# EAGLE library part ATMEGA328P-AU (library ATMEGA)
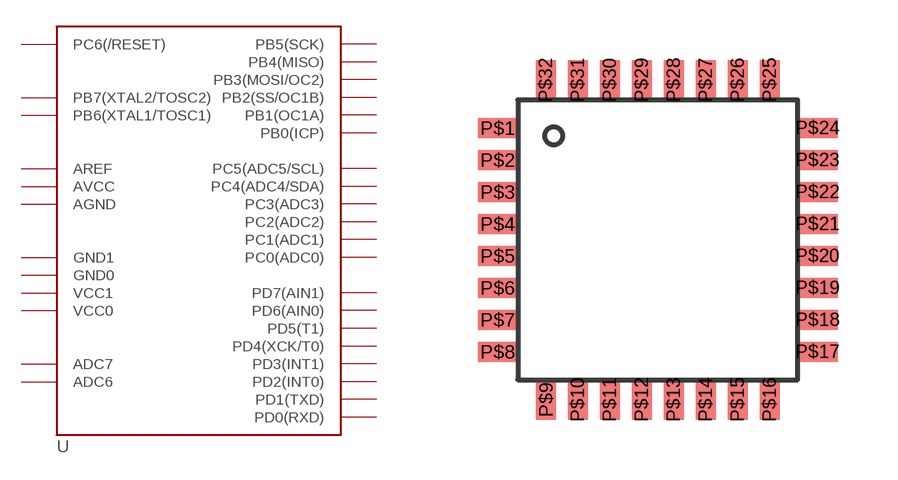
[diagram p0: symbol with the pads of ATMEGA328P-AU; footprint ATMEGA328P-AU]

Designator prefix -

## ATMEGA328P-AU  [ATMEGA328P-AU]
P$1  PD3(INT1)
P$2  PD4(XCK/T0)
P$3  GND1
P$4  VCC1
P$5  GND0
P$6  VCC0
P$7  PB6(XTAL1/TOSC1)
P$8  PB7(XTAL2/TOSC2)
P$9  PD5(T1)
P$10  PD6(AIN0)
P$11  PD7(AIN1)
P$12  PB0(ICP)
P$13  PB1(OC1A)
P$14  PB2(SS/OC1B)
P$15  PB3(MOSI/OC2)
P$16  PB4(MISO)
P$17  PB5(SCK)
P$18  AVCC
P$19  ADC6
P$20  AREF
P$21  AGND
P$22  ADC7
P$23  PC0(ADC0)
P$24  PC1(ADC1)
P$25  PC2(ADC2)
P$26  PC3(ADC3)
P$27  PC4(ADC4/SDA)
P$28  PC5(ADC5/SCL)
P$29  PC6(/RESET)
P$30  PD0(RXD)
P$31  PD1(TXD)
P$32  PD2(INT0)

## Footprint ATMEGA328P-AU (pad centres in mm)
smd 1 x 0.5: P$1 -4,2.8; P$2 -4,2; P$3 -4,1.2; P$4 -4,0.4; P$5 -4,-0.4; P$6 -4,-1.2; P$7 -4,-2; P$8 -4,-2.8; P$17 4,-2.8; P$18 4,-2; P$19 4,-1.2; P$20 4,-0.4; P$21 4,0.4; P$22 4,1.2; P$23 4,2; P$24 4,2.8
smd 0.5 x 1: P$9 -2.8,-4; P$10 -2,-4; P$11 -1.2,-4; P$12 -0.4,-4; P$13 0.4,-4; P$14 1.2,-4; P$15 2,-4; P$16 2.8,-4; P$25 2.8,4; P$26 2,4; P$27 1.2,4; P$28 0.4,4; P$29 -0.4,4; P$30 -1.2,4; P$31 -2,4; P$32 -2.8,4